# Altium schematic symbol library LU2EE20A.SchLib: 21 symbols
Pins are listed as number, name and electrical type; pins without a type are passive.

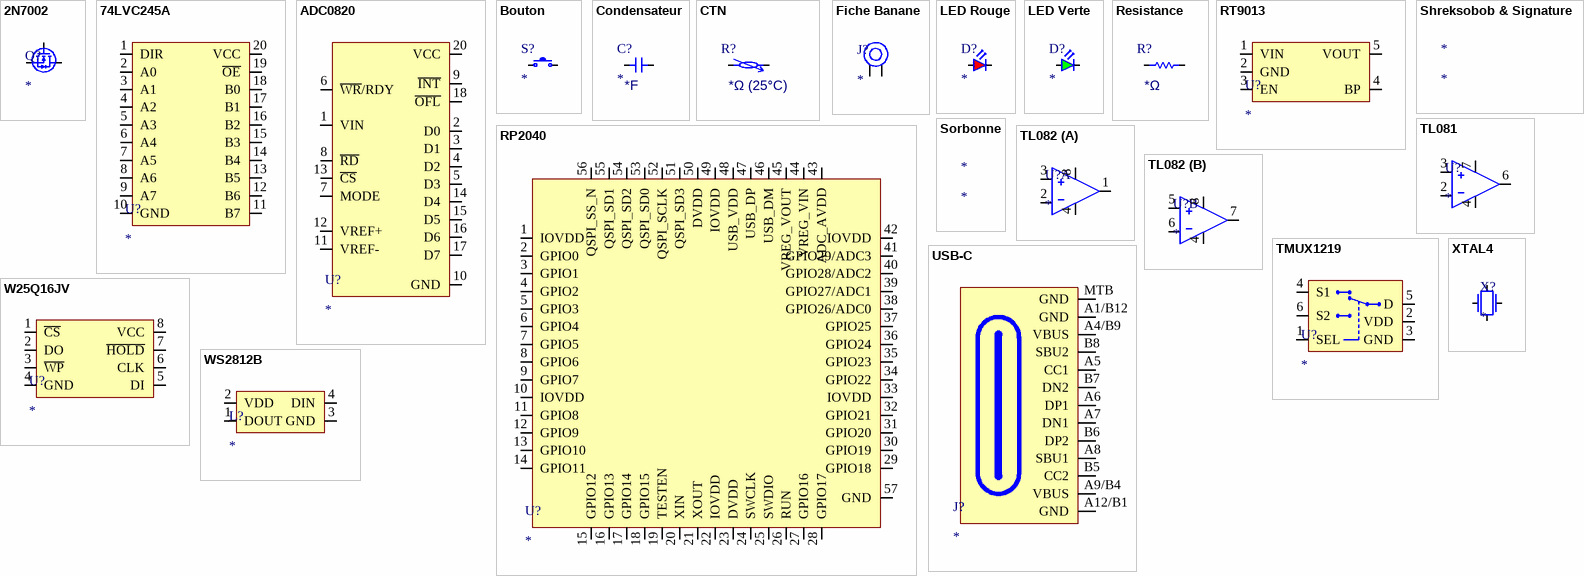
[diagram p0: symbols 2N7002 to XTAL4]

## 2N7002
designator Q?
MOSFET
footprint SOT-23
pins: 1 G, 2 S, 3 D

## 74LVC245A
designator U?
Buffer bidirectionnel
footprint TSSOP-20
pins: 1 DIR, 2 A0, 3 A1, 4 A2, 5 A3, 6 A4, 7 A5, 8 A6, 9 A7, 10 GND, 11 B7, 12 B6, 13 B5, 14 B4, 15 B3, 16 B2, 17 B1, 18 B0, 19 ~{OE}, 20 VCC

## ADC0820
designator U?
CAN (8 bit)
footprint DIP-20
pins: 1 VIN, 2 D0, 3 D1, 4 D2, 5 D3, 6 ~{WR}/RDY, 7 MODE, 8 ~{RD}, 9 ~{INT}, 10 GND, 11 VREF-, 12 VREF+, 13 ~{CS}, 14 D4, 15 D5, 16 D6, 17 D7, 18 ~{OFL}, 20 VCC

## Bouton
designator S?
Bouton
footprint Bouton
pins: 1, 2

## Condensateur
designator C?  value *F
Condensateur
footprint 0805
pins: 1, 2

## CTN
designator R?  value *Ω (25°C)  (hidden comment: *)
Thermistance
footprint Bornier
pins: 1, 2

## Fiche Banane
designator J?
Connecteur
footprint Fiche Banane
pins: 1, 2

## LED Rouge
designator D?
LED
footprint 0603 (Pol)
pins: 1 Anode, 2 Cathode

## LED Verte
designator D?
LED
footprint 0603 (Pol)
pins: 1 Anode, 2 Cathode

## Resistance
designator R?  value *Ω  (hidden comment: *)
Resistance
footprint 0805
pins: 1, 2

## RP2040
designator U?
Microcontroleur
footprint QFN-56
pins: 1 IOVDD, 2 GPIO0, 3 GPIO1, 4 GPIO2, 5 GPIO3, 6 GPIO4, 7 GPIO5, 8 GPIO6, 9 GPIO7, 10 IOVDD, 11 GPIO8, 12 GPIO9, 13 GPIO10, 14 GPIO11, 15 GPIO12, 16 GPIO13, 17 GPIO14, 18 GPIO15, 19 TESTEN, 20 XIN, 21 XOUT, 22 IOVDD, 23 DVDD, 24 SWCLK, 25 SWDIO, 26 RUN, 27 GPIO16, 28 GPIO17, 29 GPIO18, 30 GPIO19, 31 GPIO20, 32 GPIO21, 33 IOVDD, 34 GPIO22, 35 GPIO23, 36 GPIO24, 37 GPIO25, 38 GPIO26/ADC0, 39 GPIO27/ADC1, 40 GPIO28/ADC2, 41 GPIO29/ADC3, 42 IOVDD, 43 ADC_AVDD, 44 VREG_VIN, 45 VREG_VOUT, 46 USB_DM, 47 USB_DP, 48 USB_VDD, 49 IOVDD, 50 DVDD, 51 QSPI_SD3, 52 QSPI_SCLK, 53 QSPI_SD0, 54 QSPI_SD2, 55 QSPI_SD1, 56 QSPI_SS_N, 57 GND

## RT9013
designator U?
Régulateur de tension
footprint SOT-23-5
pins: 1 VIN, 2 GND, 3 EN, 4 BP, 5 VOUT

## Shreksobob & Signature
designator *
footprint Shreksobob & Signature

## Sorbonne
designator *
footprint Sorbonne

## TL081
designator U?
AOP
footprint SOIC-8
pins: 2 IN-, 3 IN+, 4 VCC-, 6 OUT, 7 VCC+

## TL082
designator U?
AOP
footprint SOIC-8
part A pins: 1 OUT, 2 IN-, 3 IN+, 4 VCC-, 8 VCC+
part B pins: 4 VCC-, 5 IN+, 6 IN-, 7 OUT, 8 VCC+

## TMUX1219
designator U?
Multiplexeur analogique
footprint SOT-23-6
pins: 1 SEL, 2 VDD, 3 GND, 4 S1, 5 D, 6 S2

## USB-C
designator J?
Connecteur
footprint USB-C
pins: A1/B12 GND, A4/B9 VBUS, A5 CC1, A6 DP1, A7 DN1, A8 SBU1, A9/B4 VBUS, A12/B1 GND, B5 CC2, B6 DP2, B7 DN2, B8 SBU2, MTB GND

## W25Q16JV
designator U?
Flash
footprint USON-8
pins: 1 ~{CS}, 2 DO, 3 ~{WP}, 4 GND, 5 DI, 6 CLK, 7 ~{HOLD}, 8 VCC

## WS2812B
designator L?
LED RGB
footprint SMD1615
pins: 1 DOUT, 2 VDD, 3 GND, 4 DIN

## XTAL4
designator X?
Crystal; Value: 12MHz
pins: 1 CRYSTAL_1, 2 GND_1, 3 CRYSTAL_2, 4 GND_2